# Altium footprint library PQFN40P700X700X90_HS-57N.PcbLib: 1 footprints
Each footprint in its own frame and in the unit in brackets; x right, y up, seen from the top. Pads: shape width x height; smd on the part's side, far side on the other; paste and mask are expansions set on the pad; w line width, h text height; cw(c..) or ccw(c..) is an arc to the next point about the centre after c.
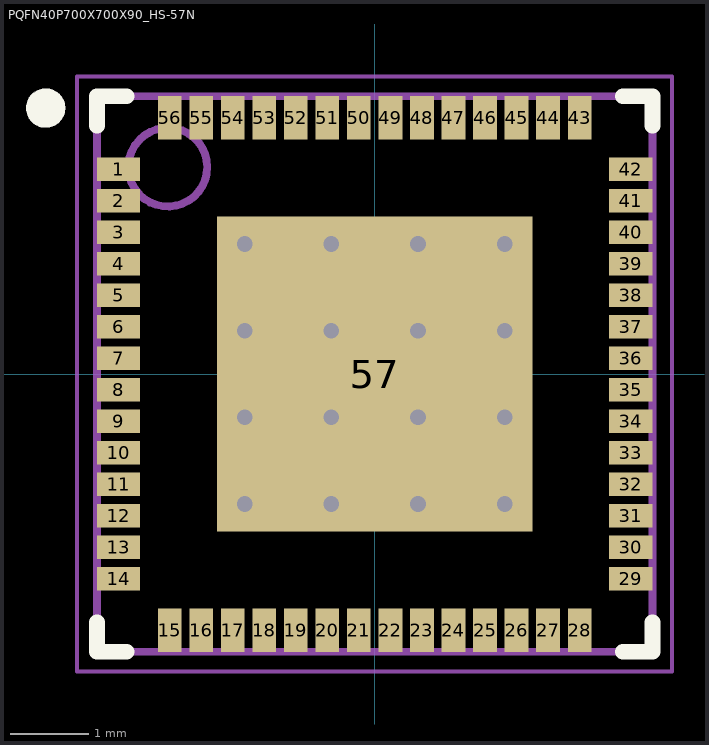
[diagram p0: the footprint, top view; thin cyan lines are the x and y axes]

## PQFN40P700X700X90_HS-57N [mm] "PQFN, 56-Leads, Body 7.00x7.00mm, Pitch 0.40mm, Thermal Pad 4.00x4.00mm, IPC Medium Density"
height 0.9
pads (57):
  rect 0.55x0.3 smd: 1(-3.25,2.6) 2(-3.25,2.2) 3(-3.25,1.8) 4(-3.25,1.4) 5(-3.25,1) 6(-3.25,0.6) 7(-3.25,0.2) 8(-3.25,-0.2) 9(-3.25,-0.6) 10(-3.25,-1) 11(-3.25,-1.4) 12(-3.25,-1.8) 13(-3.25,-2.2) 14(-3.25,-2.6) 29(3.25,-2.6) 30(3.25,-2.2) 31(3.25,-1.8) 32(3.25,-1.4) 33(3.25,-1) 34(3.25,-0.6) 35(3.25,-0.2) 36(3.25,0.2) 37(3.25,0.6) 38(3.25,1) 39(3.25,1.4) 40(3.25,1.8) 41(3.25,2.2) 42(3.25,2.6)
  rect 0.3x0.55 smd: 15(-2.6,-3.25) 16(-2.2,-3.25) 17(-1.8,-3.25) 18(-1.4,-3.25) 19(-1,-3.25) 20(-0.6,-3.25) 21(-0.2,-3.25) 22(0.2,-3.25) 23(0.6,-3.25) 24(1,-3.25) 25(1.4,-3.25) 26(1.8,-3.25) 27(2.2,-3.25) 28(2.6,-3.25) 43(2.6,3.25) 44(2.2,3.25) 45(1.8,3.25) 46(1.4,3.25) 47(1,3.25) 48(0.6,3.25) 49(0.2,3.25) 50(-0.2,3.25) 51(-0.6,3.25) 52(-1,3.25) 53(-1.4,3.25) 54(-1.8,3.25) 55(-2.2,3.25) 56(-2.6,3.25)
  rect 4x4 smd: 57(0,0)
via 1.65,-1.65 diameter 0.5 hole 0.2
via 0.55,-1.65 diameter 0.5 hole 0.2
via -0.55,-1.65 diameter 0.5 hole 0.2
via -1.65,-1.65 diameter 0.5 hole 0.2
via 1.65,-0.55 diameter 0.5 hole 0.2
via 0.55,-0.55 diameter 0.5 hole 0.2
via -0.55,-0.55 diameter 0.5 hole 0.2
via -1.65,-0.55 diameter 0.5 hole 0.2
via 1.65,0.55 diameter 0.5 hole 0.2
via 0.55,0.55 diameter 0.5 hole 0.2
via -0.55,0.55 diameter 0.5 hole 0.2
via -1.65,0.55 diameter 0.5 hole 0.2
via 1.65,1.65 diameter 0.5 hole 0.2
via 0.55,1.65 diameter 0.5 hole 0.2
via -0.55,1.65 diameter 0.5 hole 0.2
via -1.65,1.65 diameter 0.5 hole 0.2
Top Overlay:
  circle w0.25: c-4.175,3.375 r0.125
  lines w0.2: -3.525,-3.15 -3.525,-3.525 -3.15,-3.525 ; -3.525,3.15 -3.525,3.525 -3.15,3.525 ; 3.15,-3.525 3.525,-3.525 3.525,-3.15 ; 3.15,3.525 3.525,3.525 3.525,3.15
Mechanical 13:
  circle w0.1: c-2.625,2.625 r0.5
  lines w0.1: -3.525,-3.525 3.525,-3.525 3.525,3.525 -3.525,3.525 -3.525,-3.525
Mechanical 15:
  lines w0.05: -3.775,-3.775 3.775,-3.775 3.775,3.775 -3.775,3.775 -3.775,-3.775
  lines w0.1: -0.5,0 0.5,0 ; 0,-0.5 0,0.5
3D body "PQFN40P700X700X90_HS-57N.step": height 0.9, standoff 0, extent -3.525,-3.525 3.525,3.525